# EAGLE library part A152-1588.65M1 (library saw-filters-narrowband)
СКТН.433561.152-01 Параметр Ед. изм. Нижняя частота Тип. значение Верхняя частота Центральная частота МГц - 1588.65 - Минимальное вносимое затухание дБ - Не более 2.1 - Частота среза по уровню -2 дБ МГц Не более 1564.4 - Не менее 1614.2 Частота среза по уровню -28 дБ МГц Не менее 1533 - Не более 1645 Неравномерность АЧХ дБ - Не более 2 - Групповое время задержки нс - Не более 12.8 - Гарантированное затухание дБ - 28 - Температурный диапазон °C -55 22 +85 Материал подложки - - Ниобат лития 64 -
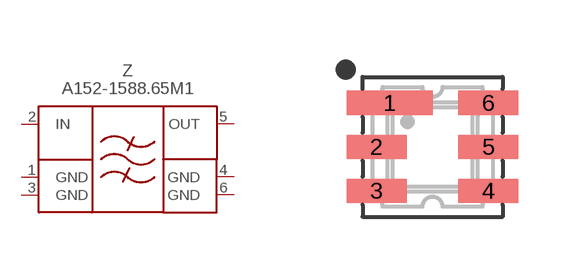
[diagram p9: symbol with the pads of DCC6; footprint DCC6]

Designator prefix Z

## A152-1588.65M1  [DCC6]
1  GND  pwr
2  IN  in
3  GND  pwr
4  GND  pwr
5  OUT  out
6  GND  pwr

## Footprint DCC6 (pad centres in mm)
smd 2.15 x 0.6: 1 -1.075,1.1
smd 1.5 x 0.6: 2 -1.4,0; 3 -1.4,-1.1; 4 1.4,-1.1; 5 1.4,0; 6 1.4,1.1